# EAGLE library part 61200821721 (library Wurth_Elektronik_Electromechanic_Wire_to_Board_Connectors_rev16a)
WR-BHD 2.54mm Male Angled Box Header, 8 Pins=>Code : Con_WTB_BHD_2.54_Male_THT_WS_61200821721 <http://katalog.we-online.de/media/thumbs2/eican/thb_Con_WTB_BHD_2.54_Male_THT_WS_6120xx21721_pf2.jpg> Details see: http://katalog.we-online.de/en/em/612_0xx_217_21 Created 2014-06-05, Karrer Zheng 2014 (C) Würth Elektronik
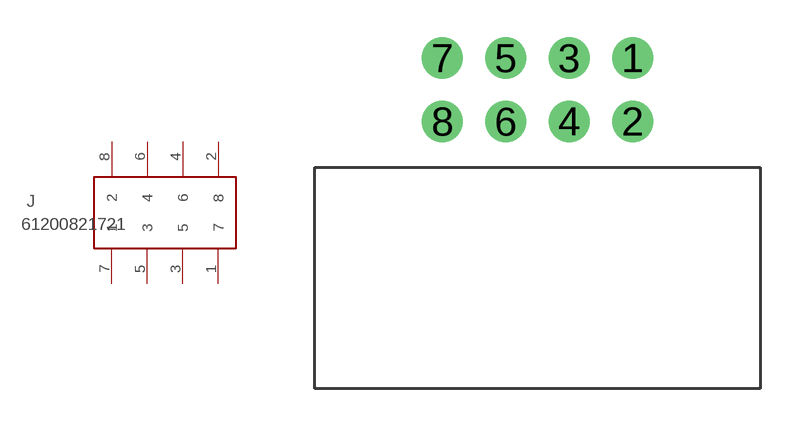
[diagram p117: symbol with the pads of 61200821721; footprint 61200821721]

Designator prefix J

## 61200821721  [61200821721]
1  7  pas
2  8  pas
3  5  pas
4  6  pas
5  3  pas
6  4  pas
7  1  pas
8  2  pas

## Footprint 61200821721 (pad centres in mm)
WR-BHD 2.54mm Male Angled Box Header, 8 Pins
drill 1.1: 1 3.81,1.27; 2 3.81,-1.27; 3 1.27,1.27; 4 1.27,-1.27; 5 -1.27,1.27; 6 -1.27,-1.27; 7 -3.81,1.27; 8 -3.81,-1.27